# Altium integrated library Micron Memory Mobile LPDRAM.IntLib: 146 symbols (part 5 of 41)
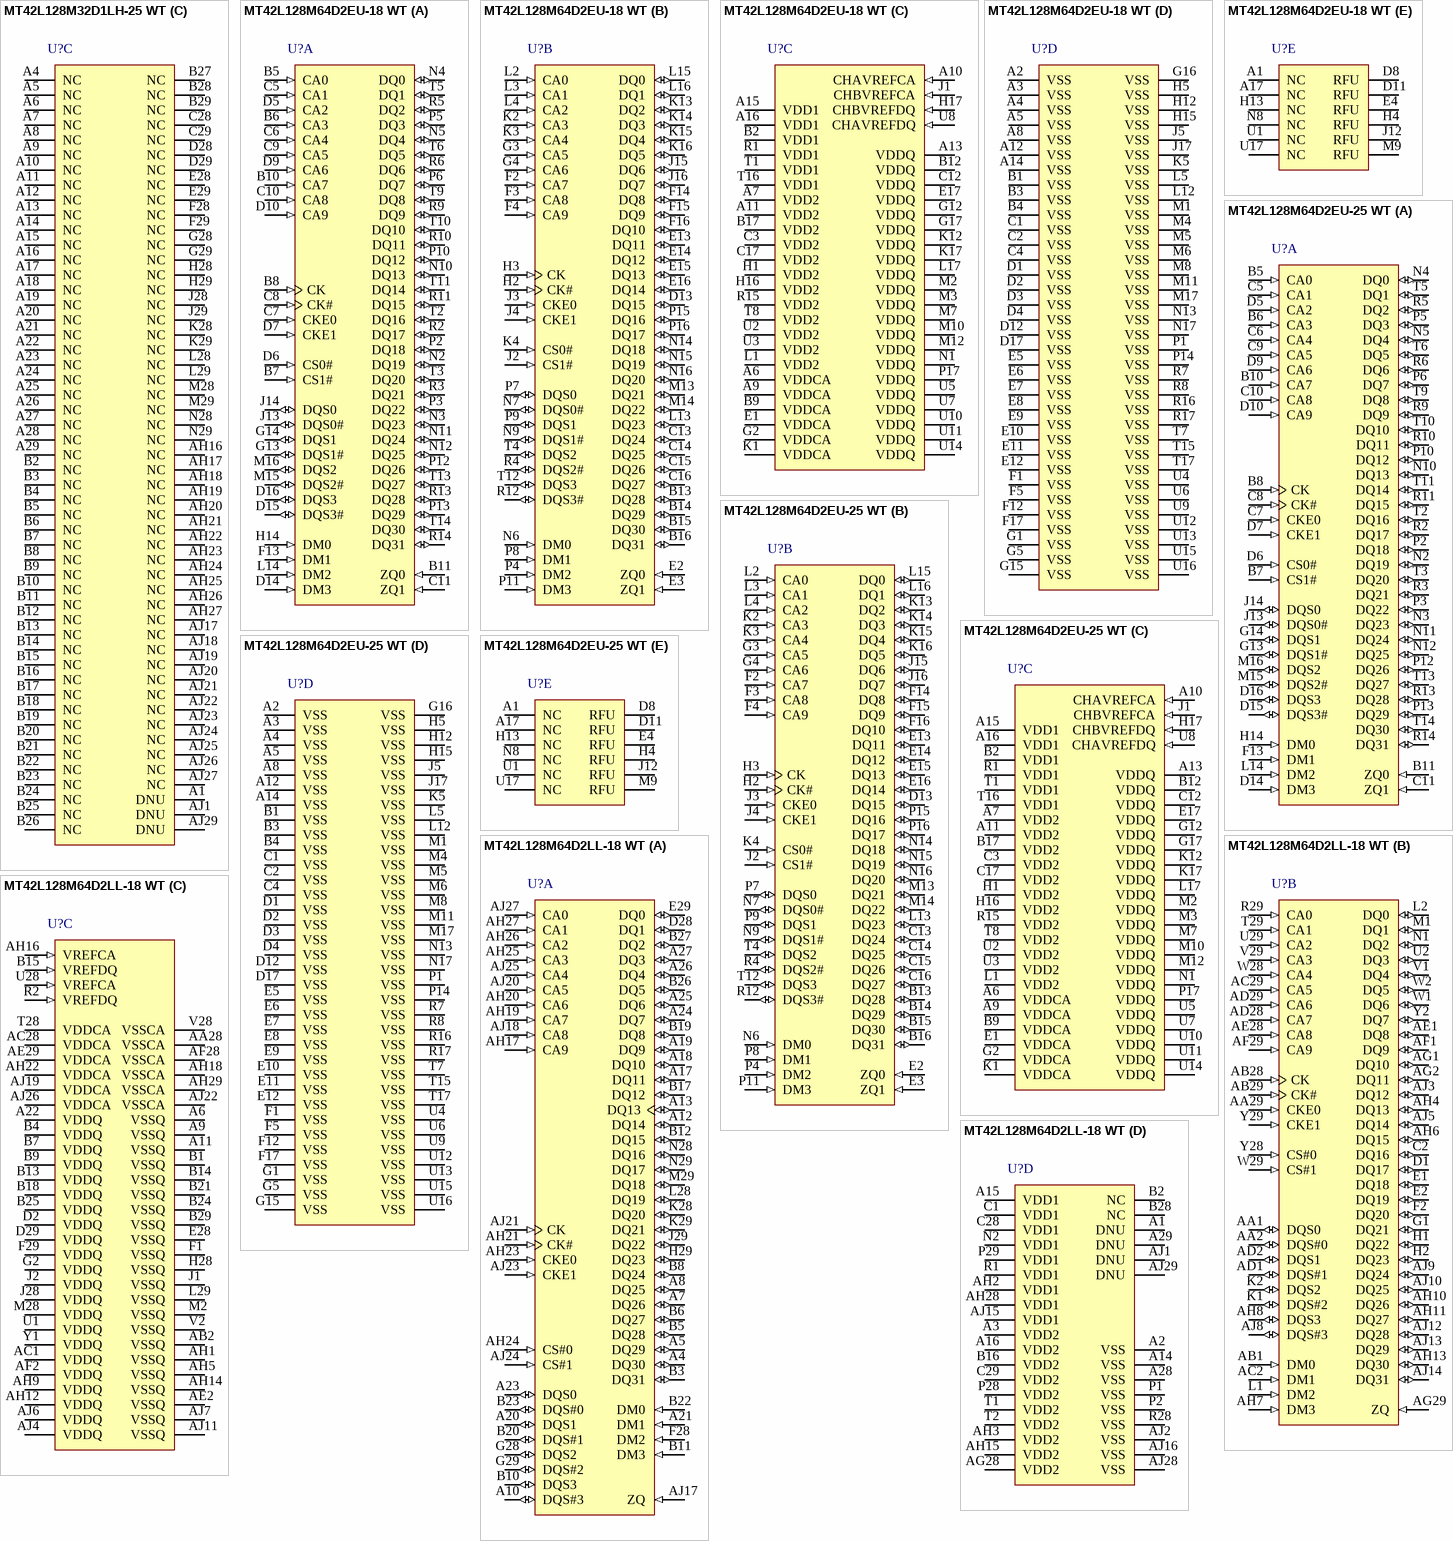
[diagram p28: symbols MT42L128M32D1LH-25 WT to MT42L128M64D2LL-18 WT]

## MT42L128M32D1LH-25 WT
designator U?
4Gb LPDDR2-800 SDRAM, 128Mb x 32, 2.5ns, 1.2V, -25 to 85 degC, 216-Ball UFBGA, Pb-Free; Manufacturer: Micron; PartNumber: MT42L128M32D1LH-25 WT; Clock Rate: 400 MHz; Op. Temp.: -25C to +85C; DatasheetVersion: Rev.L; PackageVersion: Rev.L; PackageReference: MICT-LH-216; PackageDescription: 216-Ball Fine-Pitch Ball Grid Array, 12 x 12 mm, Pitch 0.4 mm; Cycle Time: 2.5ns; Data Rate: LPDDR2-800; Density: 4Gb; Depth: 128Mb; Package: UFBGA; Part Status: Sampling; Pin Count: 216-ball; RoHS: Yes; Technology: Mobile LPDDR2; Voltage: 1.2V; Width: x32; Mounting Technology: Surface Mount; ComponentLink1Description: Manufacturer URL; ComponentLink1URL: http://www.micron.com/; ComponentLink2Description: Datasheet; ComponentLink2URL: http://www.micron.com/~/media/Documents/Products/Data%20Sheet/DRAM/Mobile%20DRAM/Low-Power%20DRAM/LPDDR2/U80M_4Gb_mobile_lpddr2_s4_sdram.pdf; ComponentLink3Description: Package Specification; ComponentLink3URL: http://www.micron.com/~/media/Documents/Products/Data%20Sheet/DRAM/Mobile%20DRAM/Low-Power%20DRAM/LPDDR2/U80M_4Gb_mobile_lpddr2_s4_sdram.pdf
footprint MICT-LH-216 (BGA, 216-Balls, Body 12x12mm, Pitch 0.4mm)
part A pins: AA1 DQS0 (io) "Data strobe: The data strobe is bidirectional (used for read and write data) and complementary (DQS and DQS#). It is edge-aligned output with read data and centered input with write data. DQS[3:0]/DQS[3:0]# is DQS for each (See Datasheet)", AA2 DQS#0 (io) "Data strobe: The data strobe is bidirectional (used for read and write data) and complementary (DQS and DQS#). It is edge-aligned output with read data and centered input with write data. DQS[3:0]/DQS[3:0]# is DQS for each (See Datasheet)", AA29 CKE0 (in) "Clock enable: CKE HIGH activates and CKE LOW deactivates the internal clock signals, input buffers, and output drivers. Power-saving modes are entered and exited via CKE transitions. CKE is considered part of the command (See Datasheet)", AB1 DM0 (in) "Input data mask: DM is an input mask signal for write data. Although DM balls are input-only, the DM loading is designed to match that of DQ and DQS balls. DM[3:0] is DM for each of the four data bytes, respectively.", AB28 CK (in) "Clock: CK and CK# are differential clock inputs. All CA inputs are sampled on both rising and falling edges of CK. CS and CKE inputs are sampled at the rising edge of CK. AC timings are referenced to clock.", AB29 CK# (in) "Clock: CK and CK# are differential clock inputs. All CA inputs are sampled on both rising and falling edges of CK. CS and CKE inputs are sampled at the rising edge of CK. AC timings are referenced to clock.", AC2 DM1 (in) "Input data mask: DM is an input mask signal for write data. Although DM balls are input-only, the DM loading is designed to match that of DQ and DQS balls. DM[3:0] is DM for each of the four data bytes, respectively.", AC29 CA5 (in) "Command/address inputs: Provide the command and address inputs according to the command truth table.", AD1 DQS# 1 (io) "Data strobe: The data strobe is bidirectional (used for read and write data) and complementary (DQS and DQS#). It is edge-aligned output with read data and centered input with write data. DQS[3:0]/DQS[3:0]# is DQS for each (See Datasheet)", AD2 DQS1 (io) "Data strobe: The data strobe is bidirectional (used for read and write data) and complementary (DQS and DQS#). It is edge-aligned output with read data and centered input with write data. DQS[3:0]/DQS[3:0]# is DQS for each (See Datasheet)", AD28 CA7 (in) "Command/address inputs: Provide the command and address inputs according to the command truth table.", AD29 CA6 (in) "Command/address inputs: Provide the command and address inputs according to the command truth table.", AE1 DQ8 (io) "Data input/output: Bidirectional data bus.", AE28 CA8 (in) "Command/address inputs: Provide the command and address inputs according to the command truth table.", AF1 DQ9 (io) "Data input/output: Bidirectional data bus.", AF29 CA9 (in) "Command/address inputs: Provide the command and address inputs according to the command truth table.", AG1 DQ10 (io) "Data input/output: Bidirectional data bus.", AG2 DQ11 (io) "Data input/output: Bidirectional data bus.", AG29 ZQ (in) "External impedance (240 ohm): This signal is used to calibrate the device output impedance for S4 devices. For S2 devices, ZQ should be tied to VDDCA.", AH4 DQ13 (io) "Data input/output: Bidirectional data bus.", AH6 DQ15 (io) "Data input/output: Bidirectional data bus.", AH7 DM3 (in) "Input data mask: DM is an input mask signal for write data. Although DM balls are input-only, the DM loading is designed to match that of DQ and DQS balls. DM[3:0] is DM for each of the four data bytes, respectively.", AH8 DQS3 (io) "Data strobe: The data strobe is bidirectional (used for read and write data) and complementary (DQS and DQS#). It is edge-aligned output with read data and centered input with write data. DQS[3:0]/DQS[3:0]# is DQS for each (See Datasheet)", AH10 DQ26 (io) "Data input/output: Bidirectional data bus.", AH11 DQ27 (io) "Data input/output: Bidirectional data bus.", AH13 DQ30 (io) "Data input/output: Bidirectional data bus.", AJ3 DQ12 (io) "Data input/output: Bidirectional data bus.", AJ5 DQ14 (io) "Data input/output: Bidirectional data bus.", AJ8 DQS#3 (io) "Data strobe: The data strobe is bidirectional (used for read and write data) and complementary (DQS and DQS#). It is edge-aligned output with read data and centered input with write data. DQS[3:0]/DQS[3:0]# is DQS for each (See Datasheet)", AJ9 DQ24 (io) "Data input/output: Bidirectional data bus.", AJ10 DQ25 (io) "Data input/output: Bidirectional data bus.", AJ12 DQ28 (io) "Data input/output: Bidirectional data bus.", AJ13 DQ29 (io) "Data input/output: Bidirectional data bus.", AJ14 DQ31 (io) "Data input/output: Bidirectional data bus.", C2 DQ16 (io) "Data input/output: Bidirectional data bus.", D1 DQ17 (io) "Data input/output: Bidirectional data bus.", E1 DQ18 (io) "Data input/output: Bidirectional data bus.", E2 DQ19 (io) "Data input/output: Bidirectional data bus.", F2 DQ20 (io) "Data input/output: Bidirectional data bus.", G1 DQ21 (io) "Data input/output: Bidirectional data bus.", H1 DQ22 (io) "Data input/output: Bidirectional data bus.", H2 DQ23 (io) "Data input/output: Bidirectional data bus.", K1 DQS#2 (io) "Data strobe: The data strobe is bidirectional (used for read and write data) and complementary (DQS and DQS#). It is edge-aligned output with read data and centered input with write data. DQS[3:0]/DQS[3:0]# is DQS for each (See Datasheet)", K2 DQS2 (io) "Data strobe: The data strobe is bidirectional (used for read and write data) and complementary (DQS and DQS#). It is edge-aligned output with read data and centered input with write data. DQS[3:0]/DQS[3:0]# is DQS for each (See Datasheet)", L1 DM2 (in) "Input data mask: DM is an input mask signal for write data. Although DM balls are input-only, the DM loading is designed to match that of DQ and DQS balls. DM[3:0] is DM for each of the four data bytes, respectively.", L2 DQ0 (io) "Data input/output: Bidirectional data bus.", M1 DQ1 (io) "Data input/output: Bidirectional data bus.", N1 DQ2 (io) "Data input/output: Bidirectional data bus.", R29 CA0 (in) "Command/address inputs: Provide the command and address inputs according to the command truth table.", T29 CA1 (in) "Command/address inputs: Provide the command and address inputs according to the command truth table.", U2 DQ3 (io) "Data input/output: Bidirectional data bus.", U29 CA2 (in) "Command/address inputs: Provide the command and address inputs according to the command truth table.", V1 DQ4 (io) "Data input/output: Bidirectional data bus.", V29 CA3 (in) "Command/address inputs: Provide the command and address inputs according to the command truth table.", W1 DQ6 (io) "Data input/output: Bidirectional data bus.", W2 DQ5 (io) "Data input/output: Bidirectional data bus.", W28 CA4 (in) "Command/address inputs: Provide the command and address inputs according to the command truth table.", W29 CS#1 (in) "Chip select: CS# is considered part of the command code and is sampled at the rising edge of CK.", Y2 DQ7 (io) "Data input/output: Bidirectional data bus.", Y28 CS#0 (in) "Chip select: CS# is considered part of the command code and is sampled at the rising edge of CK.", Y29 CKE1 (in) "Clock enable: CKE HIGH activates and CKE LOW deactivates the internal clock signals, input buffers, and output drivers. Power-saving modes are entered and exited via CKE transitions. CKE is considered part of the command (See Datasheet)"
part B pins: A2 VSS (power) "Common ground", A3 VDD2 (power) "Core power: Supply 2.", AA28 VSSCA (power) "Command/address ground: Isolated on the die for improved noise immunity.", AB2 VSSQ (power) "DQ ground: Isolated on the die for improved noise immunity.", AC1 VDDQ (power) "DQ power supply: Isolated on the die for improved noise immunity.", AC28 VDDCA (power) "Command/address power supply: Command/address power supply.", AE2 VSSQ (power) "DQ ground: Isolated on the die for improved noise immunity.", AE29 VDDCA (power) "Command/address power supply: Command/address power supply.", AF2 VDDQ (power) "DQ power supply: Isolated on the die for improved noise immunity.", AF28 VSSCA (power) "Command/address ground: Isolated on the die for improved noise immunity.", AG28 VDD2 (power) "Core power: Supply 2.", AH1 VSSQ (power) "DQ ground: Isolated on the die for improved noise immunity.", AH2 VDD1 (power) "Core power: Supply 1.", AH3 VDD2 (power) "Core power: Supply 2.", AH5 VSSQ (power) "DQ ground: Isolated on the die for improved noise immunity.", AH9 VDDQ (power) "DQ power supply: Isolated on the die for improved noise immunity.", AH12 VDDQ (power) "DQ power supply: Isolated on the die for improved noise immunity.", AH14 VSSQ (power) "DQ ground: Isolated on the die for improved noise immunity.", AH15 VDD2 (power) "Core power: Supply 2.", AH28 VDD1 (power) "Core power: Supply 1.", AH29 VSSCA (power) "Command/address ground: Isolated on the die for improved noise immunity.", AJ2 VSS (power) "Common ground", AJ4 VDDQ (power) "DQ power supply: Isolated on the die for improved noise immunity.", AJ6 VDDQ (power) "DQ power supply: Isolated on the die for improved noise immunity.", AJ7 VSSQ (power) "DQ ground: Isolated on the die for improved noise immunity.", AJ11 VSSQ (power) "DQ ground: Isolated on the die for improved noise immunity.", AJ15 VDD1 (power) "Core power: Supply 1.", AJ16 VSS (power) "Common ground", AJ28 VSS (power) "Common ground", B1 VSSQ (power) "DQ ground: Isolated on the die for improved noise immunity.", C1 VDD1 (power) "Core power: Supply 1.", D2 VDDQ (power) "DQ power supply: Isolated on the die for improved noise immunity.", F1 VSSQ (power) "DQ ground: Isolated on the die for improved noise immunity.", G2 VDDQ (power) "DQ power supply: Isolated on the die for improved noise immunity.", J1 VSSQ (power) "DQ ground: Isolated on the die for improved noise immunity.", J2 VDDQ (power) "DQ power supply: Isolated on the die for improved noise immunity.", M2 VSSQ (power) "DQ ground: Isolated on the die for improved noise immunity.", N2 VDD1 (power) "Core power: Supply 1.", P1 VSS (power) "Common ground", P2 VSS (power) "Common ground", P28 VDD2 (power) "Core power: Supply 2.", P29 VDD1 (power) "Core power: Supply 1.", R1 VDD1 (power) "Core power: Supply 1.", R2 VREFDQ (in) "Reference voltage: VREFCA is reference for command/address input buffers, VREFDQ is reference for DQ input buffers.", R28 VSS (power) "Common ground", T1 VDD2 (power) "Core power: Supply 2.", T2 VDD2 (power) "Core power: Supply 2.", T28 VDDCA (power) "Command/address power supply: Command/address power supply.", U1 VDDQ (power) "DQ power supply: Isolated on the die for improved noise immunity.", U28 VREFCA (in) "Reference voltage: VREFCA is reference for command/address input buffers, VREFDQ is reference for DQ input buffers.", V2 VSSQ (power) "DQ ground: Isolated on the die for improved noise immunity.", V28 VSSCA (power) "Command/address ground: Isolated on the die for improved noise immunity.", Y1 VDDQ (power) "DQ power supply: Isolated on the die for improved noise immunity."
part C pins: A1 DNU "Do not use: Must be grounded or left floating.", A4 NC "No connect: Not internally connected.", A5 NC "No connect: Not internally connected.", A6 NC "No connect: Not internally connected.", A7 NC "No connect: Not internally connected.", A8 NC "No connect: Not internally connected.", A9 NC "No connect: Not internally connected.", A10 NC "No connect: Not internally connected.", A11 NC "No connect: Not internally connected.", A12 NC "No connect: Not internally connected.", A13 NC "No connect: Not internally connected.", A14 NC "No connect: Not internally connected.", A15 NC "No connect: Not internally connected.", A16 NC "No connect: Not internally connected.", A17 NC "No connect: Not internally connected.", A18 NC "No connect: Not internally connected.", A19 NC "No connect: Not internally connected.", A20 NC "No connect: Not internally connected.", A21 NC "No connect: Not internally connected.", A22 NC "No connect: Not internally connected.", A23 NC "No connect: Not internally connected.", A24 NC "No connect: Not internally connected.", A25 NC "No connect: Not internally connected.", A26 NC "No connect: Not internally connected.", A27 NC "No connect: Not internally connected.", A28 NC "No connect: Not internally connected.", A29 NC "No connect: Not internally connected.", AH16 NC "No connect: Not internally connected.", AH17 NC "No connect: Not internally connected.", AH18 NC "No connect: Not internally connected.", AH19 NC "No connect: Not internally connected.", AH20 NC "No connect: Not internally connected.", AH21 NC "No connect: Not internally connected.", AH22 NC "No connect: Not internally connected.", AH23 NC "No connect: Not internally connected.", AH24 NC "No connect: Not internally connected.", AH25 NC "No connect: Not internally connected.", AH26 NC "No connect: Not internally connected.", AH27 NC "No connect: Not internally connected.", AJ1 DNU "Do not use: Must be grounded or left floating.", AJ17 NC "No connect: Not internally connected.", AJ18 NC "No connect: Not internally connected.", AJ19 NC "No connect: Not internally connected.", AJ20 NC "No connect: Not internally connected.", AJ21 NC "No connect: Not internally connected.", AJ22 NC "No connect: Not internally connected.", AJ23 NC "No connect: Not internally connected.", AJ24 NC "No connect: Not internally connected.", AJ25 NC "No connect: Not internally connected.", AJ26 NC "No connect: Not internally connected.", AJ27 NC "No connect: Not internally connected.", AJ29 DNU "Do not use: Must be grounded or left floating.", B2 NC "No connect: Not internally connected.", B3 NC "No connect: Not internally connected.", B4 NC "No connect: Not internally connected.", B5 NC "No connect: Not internally connected.", B6 NC "No connect: Not internally connected.", B7 NC "No connect: Not internally connected.", B8 NC "No connect: Not internally connected.", B9 NC "No connect: Not internally connected.", B10 NC "No connect: Not internally connected.", B11 NC "No connect: Not internally connected.", B12 NC "No connect: Not internally connected.", B13 NC "No connect: Not internally connected.", B14 NC "No connect: Not internally connected.", B15 NC "No connect: Not internally connected.", B16 NC "No connect: Not internally connected.", B17 NC "No connect: Not internally connected.", B18 NC "No connect: Not internally connected.", B19 NC "No connect: Not internally connected.", B20 NC "No connect: Not internally connected.", B21 NC "No connect: Not internally connected.", B22 NC "No connect: Not internally connected.", B23 NC "No connect: Not internally connected.", B24 NC "No connect: Not internally connected.", B25 NC "No connect: Not internally connected.", B26 NC "No connect: Not internally connected.", B27 NC "No connect: Not internally connected.", B28 NC "No connect: Not internally connected.", B29 NC "No connect: Not internally connected.", C28 NC "No connect: Not internally connected.", C29 NC "No connect: Not internally connected.", D28 NC "No connect: Not internally connected.", D29 NC "No connect: Not internally connected.", E28 NC "No connect: Not internally connected.", E29 NC "No connect: Not internally connected.", F28 NC "No connect: Not internally connected.", F29 NC "No connect: Not internally connected.", G28 NC "No connect: Not internally connected.", G29 NC "No connect: Not internally connected.", H28 NC "No connect: Not internally connected.", H29 NC "No connect: Not internally connected.", J28 NC "No connect: Not internally connected.", J29 NC "No connect: Not internally connected.", K28 NC "No connect: Not internally connected.", K29 NC "No connect: Not internally connected.", L28 NC "No connect: Not internally connected.", L29 NC "No connect: Not internally connected.", M28 NC "No connect: Not internally connected.", M29 NC "No connect: Not internally connected.", N28 NC "No connect: Not internally connected.", N29 NC "No connect: Not internally connected."

## MT42L128M64D2EU-18 WT
designator U?
8Gb LPDDR2-1066 SDRAM, 128Mb x 64, 1.875ns, 1.2V, -25 to 85 degC, 253-Ball VFBGA, Pb-Free; Manufacturer: Micron; PartNumber: MT42L128M64D2EU-18 WT; Clock Rate: 533 MHz; Op. Temp.: -25C to +85C; DatasheetVersion: Rev.L; PackageVersion: Rev.L; PackageReference: MICT-EU-253; PackageDescription: 253-Ball Fine-Pitch Ball Grid Array, 11 x 11 mm, Pitch 0.5 mm; Cycle Time: 1.875ns; Data Rate: LPDDR2-1066; Density: 8Gb; Depth: 128Mb; Package: VFBGA; Part Status: Sampling; Pin Count: 253-ball; RoHS: Yes; Technology: Mobile LPDDR2; Voltage: 1.2V; Width: x64; Mounting Technology: Surface Mount; ComponentLink1Description: Manufacturer URL; ComponentLink1URL: http://www.micron.com/; ComponentLink2Description: Datasheet; ComponentLink2URL: http://www.micron.com/~/media/Documents/Products/Data%20Sheet/DRAM/Mobile%20DRAM/Low-Power%20DRAM/LPDDR2/U80M_4Gb_mobile_lpddr2_s4_sdram.pdf; ComponentLink3Description: Package Specification; ComponentLink3URL: http://www.micron.com/~/media/Documents/Products/Data%20Sheet/DRAM/Mobile%20DRAM/Low-Power%20DRAM/LPDDR2/U80M_4Gb_mobile_lpddr2_s4_sdram.pdf
footprint MICT-EU-253 (BGA, 253-Balls, Body 11x11mm, Pitch 0.5mm)
part A pins: B5 CA0 (in) "Command/address input: Provide the command and address inputs according to the command truth table.", B6 CA3 (in) "Command/address input: Provide the command and address inputs according to the command truth table.", B7 CS1# (in) "Chip select: CS# is considered part of the command code and is sampled at the rising edge of CK.", B8 CK (in) "Clock: CK and CK# are differential clock inputs. All CA inputs are sampled on both rising and falling edges of CK. CS and CKE inputs are sampled at the rising edge of CK. AC timings are referenced to clock.", B10 CA7 (in) "Command/address input: Provide the command and address inputs according to the command truth table.", B11 ZQ0 (in) "External impedance (240 ohm): This signal is used to calibrate the device output impedance.", C5 CA1 (in) "Command/address input: Provide the command and address inputs according to the command truth table.", C6 CA4 (in) "Command/address input: Provide the command and address inputs according to the command truth table.", C7 CKE0 (in) "Clock enable: CKE HIGH activates and CKE LOW deactivates the internal clock signals, input buffers, and output drivers. Power-saving modes are entered and exited via CKE transitions. CKE is considered part of the command (See Datasheet)", C8 CK# (in) "Clock: CK and CK# are differential clock inputs. All CA inputs are sampled on both rising and falling edges of CK. CS and CKE inputs are sampled at the rising edge of CK. AC timings are referenced to clock.", C9 CA5 (in) "Command/address input: Provide the command and address inputs according to the command truth table.", C10 CA8 (in) "Command/address input: Provide the command and address inputs according to the command truth table.", C11 ZQ1 (in) "External impedance (240 ohm): This signal is used to calibrate the device output impedance.", D5 CA2 (in) "Command/address input: Provide the command and address inputs according to the command truth table.", D6 CS0# (in) "Chip select: CS# is considered part of the command code and is sampled at the rising edge of CK.", D7 CKE1 (in) "Clock enable: CKE HIGH activates and CKE LOW deactivates the internal clock signals, input buffers, and output drivers. Power-saving modes are entered and exited via CKE transitions. CKE is considered part of the command (See Datasheet)", D9 CA6 (in) "Command/address input: Provide the command and address inputs according to the command truth table.", D10 CA9 (in) "Command/address input: Provide the command and address inputs according to the command truth table.", D14 DM3 (in) "Input data mask: DM is an input mask signal for write data. Although DM balls are input-only, the DM loading is designed to match that of DQ and DQS balls. DM[3:0] is DM for each of the four data bytes, respectively.", D15 DQS3# (io) "Data strobe: The data strobe is bidirectional (used for read and write data) and complementary (DQS and DQS#). It is edge-aligned output with read data and centered input with write data. DQS[3:0]/DQS[3:0]# is DQS for each (See Datasheet)", D16 DQS3 (io) "Data strobe: The data strobe is bidirectional (used for read and write data) and complementary (DQS and DQS#). It is edge-aligned output with read data and centered input with write data. DQS[3:0]/DQS[3:0]# is DQS for each (See Datasheet)", F13 DM1 (in) "Input data mask: DM is an input mask signal for write data. Although DM balls are input-only, the DM loading is designed to match that of DQ and DQS balls. DM[3:0] is DM for each of the four data bytes, respectively.", G13 DQS1# (io) "Data strobe: The data strobe is bidirectional (used for read and write data) and complementary (DQS and DQS#). It is edge-aligned output with read data and centered input with write data. DQS[3:0]/DQS[3:0]# is DQS for each (See Datasheet)", G14 DQS1 (io) "Data strobe: The data strobe is bidirectional (used for read and write data) and complementary (DQS and DQS#). It is edge-aligned output with read data and centered input with write data. DQS[3:0]/DQS[3:0]# is DQS for each (See Datasheet)", H14 DM0 (in) "Input data mask: DM is an input mask signal for write data. Although DM balls are input-only, the DM loading is designed to match that of DQ and DQS balls. DM[3:0] is DM for each of the four data bytes, respectively.", J13 DQS0# (io) "Data strobe: The data strobe is bidirectional (used for read and write data) and complementary (DQS and DQS#). It is edge-aligned output with read data and centered input with write data. DQS[3:0]/DQS[3:0]# is DQS for each (See Datasheet)", J14 DQS0 (io) "Data strobe: The data strobe is bidirectional (used for read and write data) and complementary (DQS and DQS#). It is edge-aligned output with read data and centered input with write data. DQS[3:0]/DQS[3:0]# is DQS for each (See Datasheet)", L14 DM2 (in) "Input data mask: DM is an input mask signal for write data. Although DM balls are input-only, the DM loading is designed to match that of DQ and DQS balls. DM[3:0] is DM for each of the four data bytes, respectively.", M15 DQS2# (io) "Data strobe: The data strobe is bidirectional (used for read and write data) and complementary (DQS and DQS#). It is edge-aligned output with read data and centered input with write data. DQS[3:0]/DQS[3:0]# is DQS for each (See Datasheet)", M16 DQS2 (io) "Data strobe: The data strobe is bidirectional (used for read and write data) and complementary (DQS and DQS#). It is edge-aligned output with read data and centered input with write data. DQS[3:0]/DQS[3:0]# is DQS for each (See Datasheet)", N2 DQ19 (io) "Data input/output: Bidirectional data bus.", N3 DQ23 (io) "Data input/output: Bidirectional data bus.", N4 DQ0 (io) "Data input/output: Bidirectional data bus.", N5 DQ4 (io) "Data input/output: Bidirectional data bus.", N10 DQ13 (io) "Data input/output: Bidirectional data bus.", N11 DQ24 (io) "Data input/output: Bidirectional data bus.", N12 DQ25 (io) "Data input/output: Bidirectional data bus.", P2 DQ18 (io) "Data input/output: Bidirectional data bus.", P3 DQ22 (io) "Data input/output: Bidirectional data bus.", P5 DQ3 (io) "Data input/output: Bidirectional data bus.", P6 DQ7 (io) "Data input/output: Bidirectional data bus.", P10 DQ12 (io) "Data input/output: Bidirectional data bus.", P12 DQ26 (io) "Data input/output: Bidirectional data bus.", P13 DQ29 (io) "Data input/output: Bidirectional data bus.", R2 DQ17 (io) "Data input/output: Bidirectional data bus.", R3 DQ21 (io) "Data input/output: Bidirectional data bus.", R5 DQ2 (io) "Data input/output: Bidirectional data bus.", R6 DQ6 (io) "Data input/output: Bidirectional data bus.", R9 DQ9 (io) "Data input/output: Bidirectional data bus.", R10 DQ11 (io) "Data input/output: Bidirectional data bus.", R11 DQ15 (io) "Data input/output: Bidirectional data bus.", R13 DQ28 (io) "Data input/output: Bidirectional data bus.", R14 DQ31 (io) "Data input/output: Bidirectional data bus.", T2 DQ16 (io) "Data input/output: Bidirectional data bus.", T3 DQ20 (io) "Data input/output: Bidirectional data bus.", T5 DQ1 (io) "Data input/output: Bidirectional data bus.", T6 DQ5 (io) "Data input/output: Bidirectional data bus.", T9 DQ8 (io) "Data input/output: Bidirectional data bus.", T10 DQ10 (io) "Data input/output: Bidirectional data bus.", T11 DQ14 (io) "Data input/output: Bidirectional data bus.", T13 DQ27 (io) "Data input/output: Bidirectional data bus.", T14 DQ30 (io) "Data input/output: Bidirectional data bus."
part B pins: B13 DQ28 (io) "Data input/output: Bidirectional data bus.", B14 DQ29 (io) "Data input/output: Bidirectional data bus.", B15 DQ30 (io) "Data input/output: Bidirectional data bus.", B16 DQ31 (io) "Data input/output: Bidirectional data bus.", C13 DQ24 (io) "Data input/output: Bidirectional data bus.", C14 DQ25 (io) "Data input/output: Bidirectional data bus.", C15 DQ26 (io) "Data input/output: Bidirectional data bus.", C16 DQ27 (io) "Data input/output: Bidirectional data bus.", D13 DQ15 (io) "Data input/output: Bidirectional data bus.", E2 ZQ0 (in) "External impedance (240 ohm): This signal is used to calibrate the device output impedance.", E3 ZQ1 (in) "External impedance (240 ohm): This signal is used to calibrate the device output impedance.", E13 DQ11 (io) "Data input/output: Bidirectional data bus.", E14 DQ12 (io) "Data input/output: Bidirectional data bus.", E15 DQ13 (io) "Data input/output: Bidirectional data bus.", E16 DQ14 (io) "Data input/output: Bidirectional data bus.", F2 CA7 (in) "Command/address input: Provide the command and address inputs according to the command truth table.", F3 CA8 (in) "Command/address input: Provide the command and address inputs according to the command truth table.", F4 CA9 (in) "Command/address input: Provide the command and address inputs according to the command truth table.", F14 DQ8 (io) "Data input/output: Bidirectional data bus.", F15 DQ9 (io) "Data input/output: Bidirectional data bus.", F16 DQ10 (io) "Data input/output: Bidirectional data bus.", G3 CA5 (in) "Command/address input: Provide the command and address inputs according to the command truth table.", G4 CA6 (in) "Command/address input: Provide the command and address inputs according to the command truth table.", H2 CK# (in) "Clock: CK and CK# are differential clock inputs. All CA inputs are sampled on both rising and falling edges of CK. CS and CKE inputs are sampled at the rising edge of CK. AC timings are referenced to clock.", H3 CK (in) "Clock: CK and CK# are differential clock inputs. All CA inputs are sampled on both rising and falling edges of CK. CS and CKE inputs are sampled at the rising edge of CK. AC timings are referenced to clock.", J2 CS1# (in) "Chip select: CS# is considered part of the command code and is sampled at the rising edge of CK.", J3 CKE0 (in) "Clock enable: CKE HIGH activates and CKE LOW deactivates the internal clock signals, input buffers, and output drivers. Power-saving modes are entered and exited via CKE transitions. CKE is considered part of the command (See Datasheet)", J4 CKE1 (in) "Clock enable: CKE HIGH activates and CKE LOW deactivates the internal clock signals, input buffers, and output drivers. Power-saving modes are entered and exited via CKE transitions. CKE is considered part of the command (See Datasheet)", J15 DQ6 (io) "Data input/output: Bidirectional data bus.", J16 DQ7 (io) "Data input/output: Bidirectional data bus.", K2 CA3 (in) "Command/address input: Provide the command and address inputs according to the command truth table.", K3 CA4 (in) "Command/address input: Provide the command and address inputs according to the command truth table.", K4 CS0# (in) "Chip select: CS# is considered part of the command code and is sampled at the rising edge of CK.", K13 DQ2 (io) "Data input/output: Bidirectional data bus.", K14 DQ3 (io) "Data input/output: Bidirectional data bus.", K15 DQ4 (io) "Data input/output: Bidirectional data bus.", K16 DQ5 (io) "Data input/output: Bidirectional data bus.", L2 CA0 (in) "Command/address input: Provide the command and address inputs according to the command truth table.", L3 CA1 (in) "Command/address input: Provide the command and address inputs according to the command truth table.", L4 CA2 (in) "Command/address input: Provide the command and address inputs according to the command truth table.", L13 DQ23 (io) "Data input/output: Bidirectional data bus.", L15 DQ0 (io) "Data input/output: Bidirectional data bus.", L16 DQ1 (io) "Data input/output: Bidirectional data bus.", M13 DQ21 (io) "Data input/output: Bidirectional data bus.", M14 DQ22 (io) "Data input/output: Bidirectional data bus.", N6 DM0 (in) "Input data mask: DM is an input mask signal for write data. Although DM balls are input-only, the DM loading is designed to match that of DQ and DQS balls. DM[3:0] is DM for each of the four data bytes, respectively.", N7 DQS0# (io) "Data strobe: The data strobe is bidirectional (used for read and write data) and complementary (DQS and DQS#). It is edge-aligned output with read data and centered input with write data. DQS[3:0]/DQS[3:0]# is DQS for each (See Datasheet)", N9 DQS1# (io) "Data strobe: The data strobe is bidirectional (used for read and write data) and complementary (DQS and DQS#). It is edge-aligned output with read data and centered input with write data. DQS[3:0]/DQS[3:0]# is DQS for each (See Datasheet)", N14 DQ18 (io) "Data input/output: Bidirectional data bus.", N15 DQ19 (io) "Data input/output: Bidirectional data bus.", N16 DQ20 (io) "Data input/output: Bidirectional data bus.", P4 DM2 (in) "Input data mask: DM is an input mask signal for write data. Although DM balls are input-only, the DM loading is designed to match that of DQ and DQS balls. DM[3:0] is DM for each of the four data bytes, respectively.", P7 DQS0 (io) "Data strobe: The data strobe is bidirectional (used for read and write data) and complementary (DQS and DQS#). It is edge-aligned output with read data and centered input with write data. DQS[3:0]/DQS[3:0]# is DQS for each (See Datasheet)", P8 DM1 (in) "Input data mask: DM is an input mask signal for write data. Although DM balls are input-only, the DM loading is designed to match that of DQ and DQS balls. DM[3:0] is DM for each of the four data bytes, respectively.", P9 DQS1 (io) "Data strobe: The data strobe is bidirectional (used for read and write data) and complementary (DQS and DQS#). It is edge-aligned output with read data and centered input with write data. DQS[3:0]/DQS[3:0]# is DQS for each (See Datasheet)", P11 DM3 (in) "Input data mask: DM is an input mask signal for write data. Although DM balls are input-only, the DM loading is designed to match that of DQ and DQS balls. DM[3:0] is DM for each of the four data bytes, respectively.", P15 DQ16 (io) "Data input/output: Bidirectional data bus.", P16 DQ17 (io) "Data input/output: Bidirectional data bus.", R4 DQS2# (io) "Data strobe: The data strobe is bidirectional (used for read and write data) and complementary (DQS and DQS#). It is edge-aligned output with read data and centered input with write data. DQS[3:0]/DQS[3:0]# is DQS for each (See Datasheet)", R12 DQS3# (io) "Data strobe: The data strobe is bidirectional (used for read and write data) and complementary (DQS and DQS#). It is edge-aligned output with read data and centered input with write data. DQS[3:0]/DQS[3:0]# is DQS for each (See Datasheet)", T4 DQS2 (io) "Data strobe: The data strobe is bidirectional (used for read and write data) and complementary (DQS and DQS#). It is edge-aligned output with read data and centered input with write data. DQS[3:0]/DQS[3:0]# is DQS for each (See Datasheet)", T12 DQS3 (io) "Data strobe: The data strobe is bidirectional (used for read and write data) and complementary (DQS and DQS#). It is edge-aligned output with read data and centered input with write data. DQS[3:0]/DQS[3:0]# is DQS for each (See Datasheet)"
part C pins: A6 VDDCA (power) "Command/address power supply: Command/address power supply.", A7 VDD2 (power) "Core power: Supply 2.", A9 VDDCA (power) "Command/address power supply: Command/address power supply.", A10 CHAVREFCA (in) "Reference voltage: VREFCA is reference for command/address input buffers.", A11 VDD2 (power) "Core power: Supply 2.", A13 VDDQ (power) "DQ power supply: Isolated on the die for improved noise immunity.", A15 VDD1 (power) "Core power: Supply 1.", A16 VDD1 (power) "Core power: Supply 1.", B2 VDD1 (power) "Core power: Supply 1.", B9 VDDCA (power) "Command/address power supply: Command/address power supply.", B12 VDDQ (power) "DQ power supply: Isolated on the die for improved noise immunity.", B17 VDD2 (power) "Core power: Supply 2.", C3 VDD2 (power) "Core power: Supply 2.", C12 VDDQ (power) "DQ power supply: Isolated on the die for improved noise immunity.", C17 VDD2 (power) "Core power: Supply 2.", E1 VDDCA (power) "Command/address power supply: Command/address power supply.", E17 VDDQ (power) "DQ power supply: Isolated on the die for improved noise immunity.", G2 VDDCA (power) "Command/address power supply: Command/address power supply.", G12 VDDQ (power) "DQ power supply: Isolated on the die for improved noise immunity.", G17 VDDQ (power) "DQ power supply: Isolated on the die for improved noise immunity.", H1 VDD2 (power) "Core power: Supply 2.", H16 VDD2 (power) "Core power: Supply 2.", H17 CHBVREFDQ (in) "Reference voltage: VREFDQ is reference for DQ input buffers.", J1 CHBVREFCA (in) "Reference voltage: VREFCA is reference for command/address input buffers.", K1 VDDCA (power) "Command/address power supply: Command/address power supply.", K12 VDDQ (power) "DQ power supply: Isolated on the die for improved noise immunity.", K17 VDDQ (power) "DQ power supply: Isolated on the die for improved noise immunity.", L1 VDD2 (power) "Core power: Supply 2.", L17 VDDQ (power) "DQ power supply: Isolated on the die for improved noise immunity.", M2 VDDQ (power) "DQ power supply: Isolated on the die for improved noise immunity.", M3 VDDQ (power) "DQ power supply: Isolated on the die for improved noise immunity.", M7 VDDQ (power) "DQ power supply: Isolated on the die for improved noise immunity.", M10 VDDQ (power) "DQ power supply: Isolated on the die for improved noise immunity.", M12 VDDQ (power) "DQ power supply: Isolated on the die for improved noise immunity.", N1 VDDQ (power) "DQ power supply: Isolated on the die for improved noise immunity.", P17 VDDQ (power) "DQ power supply: Isolated on the die for improved noise immunity.", R1 VDD1 (power) "Core power: Supply 1.", R15 VDD2 (power) "Core power: Supply 2.", T1 VDD1 (power) "Core power: Supply 1.", T8 VDD2 (power) "Core power: Supply 2.", T16 VDD1 (power) "Core power: Supply 1.", U2 VDD2 (power) "Core power: Supply 2.", U3 VDD2 (power) "Core power: Supply 2.", U5 VDDQ (power) "DQ power supply: Isolated on the die for improved noise immunity.", U7 VDDQ (power) "DQ power supply: Isolated on the die for improved noise immunity.", U8 CHAVREFDQ (in) "Reference voltage: VREFDQ is reference for DQ input buffers.", U10 VDDQ (power) "DQ power supply: Isolated on the die for improved noise immunity.", U11 VDDQ (power) "DQ power supply: Isolated on the die for improved noise immunity.", U14 VDDQ (power) "DQ power supply: Isolated on the die for improved noise immunity."
part D pins: A2 VSS (power) "Common ground", A3 VSS (power) "Common ground", A4 VSS (power) "Common ground", A5 VSS (power) "Common ground", A8 VSS (power) "Common ground", A12 VSS (power) "Common ground", A14 VSS (power) "Common ground", B1 VSS (power) "Common ground", B3 VSS (power) "Common ground", B4 VSS (power) "Common ground", C1 VSS (power) "Common ground", C2 VSS (power) "Common ground", C4 VSS (power) "Common ground", D1 VSS (power) "Common ground", D2 VSS (power) "Common ground", D3 VSS (power) "Common ground", D4 VSS (power) "Common ground", D12 VSS (power) "Common ground", D17 VSS (power) "Common ground", E5 VSS (power) "Common ground", E6 VSS (power) "Common ground", E7 VSS (power) "Common ground", E8 VSS (power) "Common ground", E9 VSS (power) "Common ground", E10 VSS (power) "Common ground", E11 VSS (power) "Common ground", E12 VSS (power) "Common ground", F1 VSS (power) "Common ground", F5 VSS (power) "Common ground", F12 VSS (power) "Common ground", F17 VSS (power) "Common ground", G1 VSS (power) "Common ground", G5 VSS (power) "Common ground", G15 VSS (power) "Common ground", G16 VSS (power) "Common ground", H5 VSS (power) "Common ground", H12 VSS (power) "Common ground", H15 VSS (power) "Common ground", J5 VSS (power) "Common ground", J17 VSS (power) "Common ground", K5 VSS (power) "Common ground", L5 VSS (power) "Common ground", L12 VSS (power) "Common ground", M1 VSS (power) "Common ground", M4 VSS (power) "Common ground", M5 VSS (power) "Common ground", M6 VSS (power) "Common ground", M8 VSS (power) "Common ground", M11 VSS (power) "Common ground", M17 VSS (power) "Common ground", N13 VSS (power) "Common ground", N17 VSS (power) "Common ground", P1 VSS (power) "Common ground", P14 VSS (power) "Common ground", R7 VSS (power) "Common ground", R8 VSS (power) "Common ground", R16 VSS (power) "Common ground", R17 VSS (power) "Common ground", T7 VSS (power) "Common ground", T15 VSS (power) "Common ground", T17 VSS (power) "Common ground", U4 VSS (power) "Common ground", U6 VSS (power) "Common ground", U9 VSS (power) "Common ground", U12 VSS (power) "Common ground", U13 VSS (power) "Common ground", U15 VSS (power) "Common ground", U16 VSS (power) "Common ground"
part E pins: A1 NC "No connect: Not internally connected.", A17 NC "No connect: Not internally connected.", D8 RFU, D11 RFU, E4 RFU, H4 RFU, H13 NC "No connect: Not internally connected.", J12 RFU, M9 RFU, N8 NC "No connect: Not internally connected.", U1 NC "No connect: Not internally connected.", U17 NC "No connect: Not internally connected."